# EAGLE library part 766-163-R270P-ND (library Resistors - Networks,Arrays)
CTS Leaded Surface Mount Series 767 2% Resistors
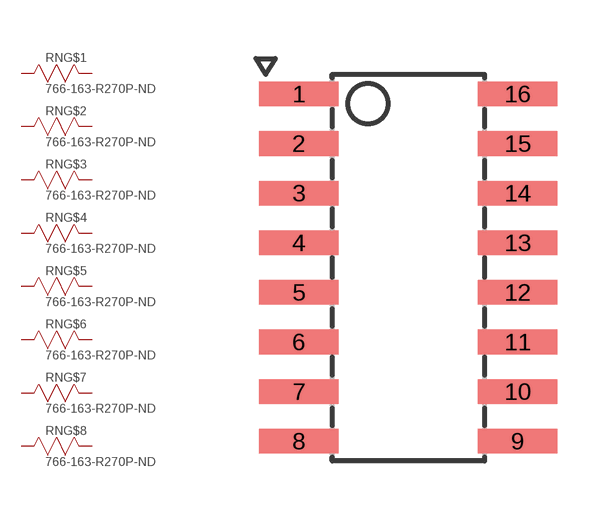
[diagram p1: symbol with the pads of 766; footprint 766]

Designator prefix RN; gates G$1=R G$2=R G$3=R G$4=R G$5=R G$6=R G$7=R G$8=R

## 766-163-R270P-ND  [766]
1  G$1:P$1  pas
2  G$2:P$1  pas
3  G$3:P$1  pas
4  G$4:P$1  pas
5  G$5:P$1  pas
6  G$6:P$1  pas
7  G$7:P$1  pas
8  G$8:P$1  pas
9  G$8:P$2  pas
10  G$7:P$2  pas
11  G$6:P$2  pas
12  G$5:P$2  pas
13  G$4:P$2  pas
14  G$3:P$2  pas
15  G$2:P$2  pas
16  G$1:P$2  pas

## Footprint 766 (pad centres in mm)
smd 2.03 x 0.63: 1 -2.8,4.445; 2 -2.8,3.175; 3 -2.8,1.905; 4 -2.8,0.635; 5 -2.8,-0.635; 6 -2.8,-1.905; 7 -2.8,-3.175; 8 -2.8,-4.445; 9 2.8,-4.445; 10 2.8,-3.175; 11 2.8,-1.905; 12 2.8,-0.635; 13 2.8,0.635; 14 2.8,1.905; 15 2.8,3.175; 16 2.8,4.445